# EAGLE library part MA07-1 (library all-connectors)
PIN HEADER
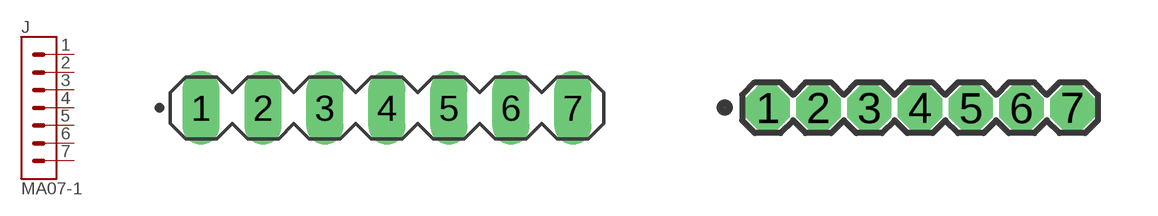
[diagram p6: symbol with the pads of MA07-1_TH_2.54MM; footprints MA07-1_TH_2.54MM, MA07-1_TH_1.27MM]

Designator prefix J

## MA07-1_TH_2.54MM  [MA07-1_TH_2.54MM]
1  1  pas
2  2  pas
3  3  pas
4  4  pas
5  5  pas
6  6  pas
7  7  pas

## MA07-1_TH_1.27MM  [MA07-1_TH_1.27MM]
Pads as for MA07-1_TH_2.54MM

## Footprint MA07-1_TH_2.54MM (pad centres in mm)
PIN HEADER
drill 1.016 long: 1 -7.62,0; 2 -5.08,0; 3 -2.54,0; 4 0,0; 5 2.54,0; 6 5.08,0; 7 7.62,0

## Footprint MA07-1_TH_1.27MM (pad centres in mm)
PIN HEADER
drill 0.6 octagon: 1 -3.81,0; 2 -2.54,0; 3 -1.27,0; 4 0,0; 5 1.27,0; 6 2.54,0; 7 3.81,0